# Altium footprint library 分立器件.PcbLib: 102 footprints (part 3 of 7)
Each footprint in its own frame and in the unit in brackets; x right, y up, seen from the top. Pads: shape width x height; smd on the part's side, far side on the other; paste and mask are expansions set on the pad; w line width, h text height; cw(c..) or ccw(c..) is an arc to the next point about the centre after c.
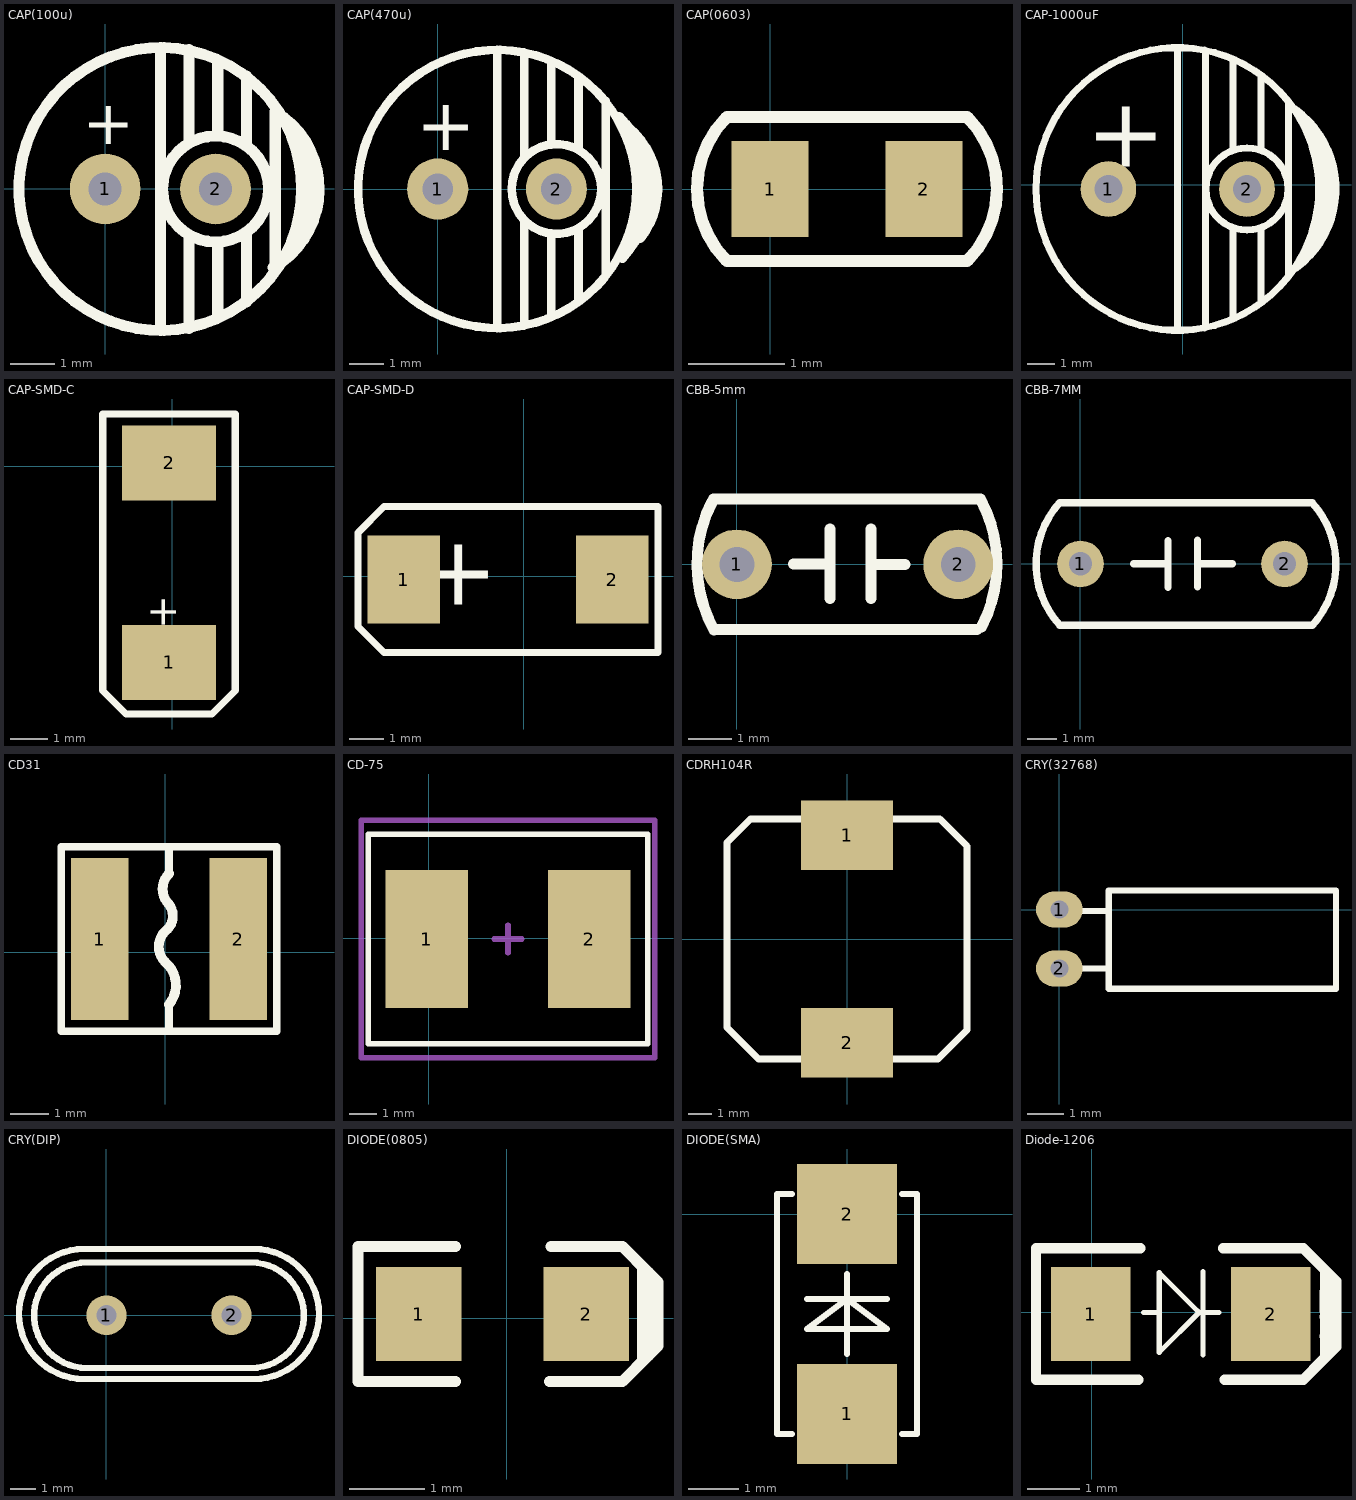
[diagram p2: the footprints below, top view; thin cyan lines are the x and y axes]

## CAP(100u) [mm]
pads (2):
  round 1.6 hole 0.75: 1(0,0) 2(2.5,0)
Top Overlay:
  circle w0.25: c1.25,0 r3.2
  circle w0.254: c2.5,0 r1.2
  lines w0.254: 1.25,-3.2 1.25,3.2 ; 1.9,-3.15 1.9,-1.05 ; 1.9,1.05 1.9,3.15 ; 2.55,-2.9 2.55,-1.2 ; 2.55,1.2 2.55,2.9 ; 3.2,-2.55 3.2,-1 ; 3.2,1 3.2,2.55 ; 3.807,-1.775 ccw(c2.8,0) 3.85,1.75 ; 3.85,-1.85 3.85,1.75 ; 4.301,-1.101 ccw(c3.2,0) 4.35,1.05 ; 4.5,-0.85 4.5,0.85
  text "+" at -0.508,1.016 h1.02

## CAP(470u) [mm]
pads (2):
  round 1.8 hole 0.9: 1(0,0) 2(3.5,0)
Top Overlay:
  circle w0.254: c3.5,0 r1.32
  circle w0.254: c1.75,0 r4.1
  lines w0.254: 1.75,-4.1 1.75,4.1 ; 2.55,-3.95 2.55,-1 ; 2.55,1 2.55,3.95 ; 3.35,-3.65 3.35,-1.3 ; 3.35,1.3 3.35,3.65 ; 4.15,-3.3 4.15,-1.2 ; 4.15,1.2 4.15,3.3 ; 4.95,-2.5 4.95,2.6 ; 5.35,2.15 cw(c3.25,0) 5.447,-2.051 ; 5.584,-1.689 ccw(c3.05,0) 5.7,1.5 ; 5.65,1.8 cw(c4.15,0) 5.975,-1.47
  text "+" at -0.635,1.145 h1.52

## CAP(0603) [mm]
pads (2):
  rect 0.8x1 smd: 1(0,0) 2(1.6,0)
Top Overlay:
  lines w0.127: -0.45,-0.75 cw(c0.3,0) -0.45,0.75 2.05,0.75 cw(c1.3,0) 2.05,-0.75 -0.45,-0.75

## CAP-1000uF [mil]
pads (2):
  round 79 hole 39.37: 1(-105.5,-6) 2(91.5,-6)
Top Overlay:
  circle w10: c-7.5,-6 r201
  circle w10: c91.5,-6 r58.5
  lines w10: -7,-206.79 -7,194.79 ; 32.37,-202.85 32.37,188.88 ; 71.74,-187.1 71.74,-63.09 ; 71.74,51.09 71.74,175.1 ; 111.11,-163.48 111.11,-61.12 ; 111.11,49.12 111.11,151.48 ; 150.48,-128.05 150.48,114.08 cw(c77.65,-6) 162.22,-118.12 ; 172.16,-100.66 ccw(c69.77,-6) 174.1,86.52 ; 184.82,-79.18 ccw(c32.37,-6) 185.91,64.87
  text "+" at -137.07,25.64 h98.42

## CAP-SMD-C [mil]
pads (2):
  rect 100x80 smd: 1(-3.61,-209.44) 2(-3.61,3.56)
Top Overlay:
  lines w7.87: -74.48,-239.43 -49.47,-264.44 42.24,-264.44 67.25,-239.43 67.25,55.56 -74.48,55.56 -74.48,-239.43
  text "+" at -23,-138 h31.5

## CAP-SMD-D [mil]
pads (2):
  rect 82x100 smd: 1(-136,-4) 2(100,-4)
Top Overlay:
  lines w7.87: -188,-57.15 -188,49.15 -158.47,78.68 152,78.68 152,-86.68 -158.47,-86.68 -188,-57.15
  text "+" at -28.83,35.37 h78.74

## CBB-5mm [mm]
pads (2):
  round 1.6 hole 0.8: 1(0,0) 2(5.08,0)
Top Overlay:
  lines w0.254: -0.578,1.419 ccw(c2.198,0.008) -0.524,-1.505 ; -0.533,1.5 5.588,1.5 ; -0.515,-1.5 5.512,-1.5 ; 1.295,0.013 2.051,0.013 ; 2.134,-0.787 2.134,0.813 ; 3.073,-0.787 3.073,0.813 ; 3.169,0 3.861,0 ; 5.59,1.501 cw(c2.856,0.008) 5.616,-1.436

## CBB-7MM [mm]
pads (2):
  round 1.6 hole 0.8: 1(0,0) 2(7,0)
Top Overlay:
  lines w0.254: -0.711,-2.1 cw(c1.589,0) -0.711,2.1 7.95,2.1 ; -0.686,-2.108 7.95,-2.108 ccw(c5.65,-0.008) 7.95,2.092 ; 1.821,0 2.921,0 ; 3.004,-0.8 3.004,0.8 ; 4.013,-0.787 4.013,0.813 ; 4.108,0 5.208,0

## CD31 [mm]
pads (2):
  rect 1.5x4.2 smd: 1(-1.703,0.346) 2(1.897,0.346)
Top Overlay:
  lines w0.203: 0.097,-2.054 0.097,-1.354 ; 0.097,2.046 0.097,2.746 ; -2.703,-2.054 -2.703,2.746 2.897,2.746 2.897,-2.054 -2.703,-2.054
  lines w0.254: 0.097,-1.354 ccw(c-0.503,-0.854) -0.003,-0.254 cw(c0.397,0.146) -0.003,0.546 ccw(c-0.303,0.946) 0.097,1.246 cw(c0.497,1.646) 0.097,2.046

## CD-75 [mm]
pads (2):
  rect 3x5 smd: 1(-0.079,-0.022) 2(5.821,-0.022)
Top Overlay:
  lines w0.2: -2.209,-3.832 7.951,-3.832 7.951,3.788 -2.209,3.788 -2.209,-3.832
Mechanical 15:
  lines w0.2: 2.363,-0.022 3.379,-0.022 ; 2.871,-0.53 2.871,0.486 ; -2.463,-4.34 -2.463,4.296 8.205,4.296 8.205,-4.34 -2.463,-4.34
3D body: height 5.11, standoff 0.01, extent -0.966,-3.502 6.709,3.458

## CDRH104R [mm]
height 4
pads (2):
  rect 4x3 smd: 1(0,4.5) 2(0,-4.5)
Top Overlay:
  lines w0.3: -5.2,-3.842 -5.2,4.173 -4.173,5.2 4.02,5.2 5.2,4.02 5.2,-3.944 3.944,-5.2 -3.842,-5.2 -5.2,-3.842

## CRY(32768) [mm]
pads (2):
  oval 1.3x1 hole 0.5: 1(0,0) 2(0,-1.64)
Top Overlay:
  lines w0.178: 0.508,-0.04 1.37,-0.04 ; 0.58,-1.64 1.37,-1.65 ; 1.37,-2.2 7.7,-2.2 7.7,0.53 1.37,0.53 1.37,-2.2

## CRY(DIP) [mm]
pads (2):
  round 1.6 hole 0.8: 1(0,0) 2(5.004,0)
Top Overlay:
  lines w0.254: -0.898,-2.55 cw(c-0.898,0.05) -0.898,2.65 5.902,2.65 cw(c5.902,0.05) 5.902,-2.55 -0.898,-2.55 ; -0.787,-2.108 cw(c-0.787,0) -0.787,2.108 5.791,2.108 cw(c5.791,0) 5.791,-2.108 -0.787,-2.108

## DIODE(0805) [mm]
pads (2):
  rect 1.143x1.25 smd: 1(-1.171,0.055) 2(1.064,0.055)
Top Overlay:
  lines w0.15: -0.684,-0.845 -1.984,-0.845 -1.984,0.955 -0.684,0.955 ; 0.577,-0.845 1.527,-0.845 ; 0.597,0.955 1.547,0.955 ; 1.897,-0.495 1.897,0.605
  lines w0.152: 1.547,0.955 1.897,0.605 2.022,0.48 2.022,-0.37 1.547,-0.845 1.897,-0.495 ; 1.817,-0.573 1.817,0.683

## DIODE(SMA) [mm]
pads (2):
  rect 2x2 smd: 1(0,-4) 2(0,0)
Top Overlay:
  lines w0.127: -1.1,-4.4 -1.4,-4.4 -1.4,0.4 -1.1,0.4 ; -0.8,-1.7 0.8,-1.7 ; -0.4,-1.7 0.4,-1.7 ; 0,-2.8 0,-1.2 ; 1.1,-4.4 1.4,-4.4 1.4,0.4 1.1,0.4 ; -0.8,-2.3 0.8,-2.3 0,-1.7 -0.8,-2.3
3D body: height 2.4, standoff 0, extent -1.368,-4.363 1.332,0.237

## Diode-1206 [mm]
pads (2):
  rect 1.524x1.8 smd: 1(-0.018,-0.029) 2(3.432,-0.029)
Top Overlay:
  lines w0.099: 0.991,0 1.295,0 ; 2.032,0.025 1.295,0.762 1.295,-0.762 2.057,0 2.438,0 ; 2.134,-0.813 2.134,0.787
  lines w0.2: 0.892,-1.289 -1.068,-1.289 -1.068,1.231 0.932,1.231 ; 2.522,1.231 4.052,1.231 4.472,0.811 4.472,-0.869 4.052,-1.289 2.552,-1.289
  lines w0.203: 4.257,-1.079 4.682,-0.654 ; 4.472,-0.079 4.672,0.121 4.682,0.121 4.472,0.331 4.472,0.371 ; 4.472,0.811 4.682,0.601 ; 4.682,-0.654 4.682,0.601 ; 4.682,-0.654 4.482,-0.454 4.472,-0.454 4.682,-0.244 4.682,-0.179 4.472,0.031 4.472,0.386 4.482,0.396 4.472,0.396 4.677,0.601 4.682,0.601